# Altium footprint library 封装.PcbLib: 2 footprints
Each footprint in its own frame and in the unit in brackets; x right, y up, seen from the top. Pads: shape width x height; smd on the part's side, far side on the other; paste and mask are expansions set on the pad; w line width, h text height; cw(c..) or ccw(c..) is an arc to the next point about the centre after c.
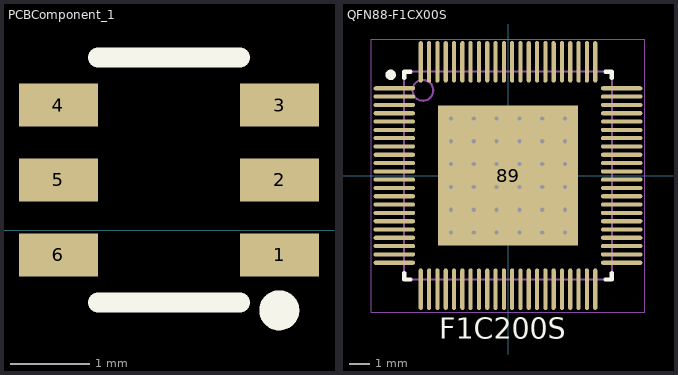
[diagram p0: the footprints below, top view; thin cyan lines are the x and y axes]

## PCBComponent_1 [mm]
pads (6):
  rect 1x0.55 smd: 1(25.525,-0.315) 2(25.525,0.635) 3(25.525,1.585) 4(22.725,1.585) 5(22.725,0.635) 6(22.725,-0.315)
Top Overlay:
  circle w0.254: c25.522,-1.016 r0.127
  lines w0.254: 23.225,-0.915 25.025,-0.915 ; 23.225,2.185 25.025,2.185
Mechanical 15:
  circle w0.2: c25.525,-0.315 r0.1

## QFN88-F1CX00S [mm]
height 0.85
pads (89):
  oval 2x0.2 smd: 1(-5.475,4.2) 2(-5.475,3.8) 3(-5.475,3.4) 4(-5.475,3) 5(-5.475,2.6) 6(-5.475,2.2) 7(-5.475,1.8) 8(-5.475,1.4) 9(-5.475,1) 10(-5.475,0.6) 11(-5.475,0.2) 12(-5.475,-0.2) 13(-5.475,-0.6) 14(-5.475,-1) 15(-5.475,-1.4) 16(-5.475,-1.8) 17(-5.475,-2.2) 18(-5.475,-2.6) 19(-5.475,-3) 20(-5.475,-3.4) 21(-5.475,-3.8) 22(-5.475,-4.2) 45(5.475,-4.2) 46(5.475,-3.8) 47(5.475,-3.4) 48(5.475,-3) 49(5.475,-2.6) 50(5.475,-2.2) 51(5.475,-1.8) 52(5.475,-1.4) 53(5.475,-1) 54(5.475,-0.6) 55(5.475,-0.2) 56(5.475,0.2) 57(5.475,0.6) 58(5.475,1) 59(5.475,1.4) 60(5.475,1.8) 61(5.475,2.2) 62(5.475,2.6) 63(5.475,3) 64(5.475,3.4) 65(5.475,3.8) 66(5.475,4.2)
  oval 0.2x2 smd: 23(-4.2,-5.475) 24(-3.8,-5.475) 25(-3.4,-5.475) 26(-3,-5.475) 27(-2.6,-5.475) 28(-2.2,-5.475) 29(-1.8,-5.475) 30(-1.4,-5.475) 31(-1,-5.475) 32(-0.6,-5.475) 33(-0.2,-5.475) 34(0.2,-5.475) 35(0.6,-5.475) 36(1,-5.475) 37(1.4,-5.475) 38(1.8,-5.475) 39(2.2,-5.475) 40(2.6,-5.475) 41(3,-5.475) 42(3.4,-5.475) 43(3.8,-5.475) 44(4.2,-5.475) 67(4.2,5.475) 68(3.8,5.475) 69(3.4,5.475) 70(3,5.475) 71(2.6,5.475) 72(2.2,5.475) 73(1.8,5.475) 74(1.4,5.475) 75(1,5.475) 76(0.6,5.475) 77(0.2,5.475) 78(-0.2,5.475) 79(-0.6,5.475) 80(-1,5.475) 81(-1.4,5.475) 82(-1.8,5.475) 83(-2.2,5.475) 84(-2.6,5.475) 85(-3,5.475) 86(-3.4,5.475) 87(-3.8,5.475) 88(-4.2,5.475)
  rect 6.74x6.74 smd: 89(0,0)
via -2.75,2.75 diameter 0.5 hole 0.2
via -1.65,2.75 diameter 0.5 hole 0.2
via -0.55,2.75 diameter 0.5 hole 0.2
via 0.55,2.75 diameter 0.5 hole 0.2
via 1.65,2.75 diameter 0.5 hole 0.2
via 2.75,2.75 diameter 0.5 hole 0.2
via -2.75,1.65 diameter 0.5 hole 0.2
via -1.65,1.65 diameter 0.5 hole 0.2
via -0.55,1.65 diameter 0.5 hole 0.2
via 0.55,1.65 diameter 0.5 hole 0.2
via 1.65,1.65 diameter 0.5 hole 0.2
via 2.75,1.65 diameter 0.5 hole 0.2
via -2.75,0.55 diameter 0.5 hole 0.2
via -1.65,0.55 diameter 0.5 hole 0.2
via -0.55,0.55 diameter 0.5 hole 0.2
via 0.55,0.55 diameter 0.5 hole 0.2
via 1.65,0.55 diameter 0.5 hole 0.2
via 2.75,0.55 diameter 0.5 hole 0.2
via -2.75,-0.55 diameter 0.5 hole 0.2
via -1.65,-0.55 diameter 0.5 hole 0.2
via -0.55,-0.55 diameter 0.5 hole 0.2
via 0.55,-0.55 diameter 0.5 hole 0.2
via 1.65,-0.55 diameter 0.5 hole 0.2
via 2.75,-0.55 diameter 0.5 hole 0.2
via -2.75,-1.65 diameter 0.5 hole 0.2
via -1.65,-1.65 diameter 0.5 hole 0.2
via -0.55,-1.65 diameter 0.5 hole 0.2
via 0.55,-1.65 diameter 0.5 hole 0.2
via 1.65,-1.65 diameter 0.5 hole 0.2
via 2.75,-1.65 diameter 0.5 hole 0.2
via -2.75,-2.75 diameter 0.5 hole 0.2
via -1.65,-2.75 diameter 0.5 hole 0.2
via -0.55,-2.75 diameter 0.5 hole 0.2
via 0.55,-2.75 diameter 0.5 hole 0.2
via 1.65,-2.75 diameter 0.5 hole 0.2
via 2.75,-2.75 diameter 0.5 hole 0.2
Top Overlay:
  circle w0.25: c-5.65,4.85 r0.125
  lines w0.2: -5,-4.7 -5,-5 -4.7,-5 ; -5,4.7 -5,5 -4.7,5 ; 4.7,-5 5,-5 5,-4.7 ; 4.7,5 5,5 5,4.7
  text "F1C200S" at -3.302,-7.874 h1
Mechanical 13:
  circle w0.1: c-4.1,4.1 r0.5
  lines w0.1: -5,-5 -5,5 5,5 5,-5 -5,-5
Mechanical 15:
  lines w0.05: -6.575,-6.575 -6.575,6.575 6.575,6.575 6.575,-6.575 -6.575,-6.575
  lines w0.1: -0.5,0 0.5,0 ; 0,-0.5 0,0.5
3D body: height 0.85, standoff 0.02, extent -5,-5 5,5